# Altium schematic symbol library USB1075-30-P-B.SchLib: 1 symbol
Pins are listed as number, name and electrical type; pins without a type are passive.

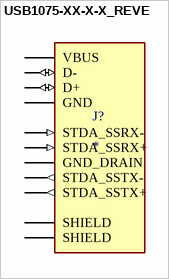
[diagram p0: symbol USB1075-XX-X-X_REVE]

## USB1075-XX-X-X_REVE
designator J?
USB 3.0 Receptacle. Type A, Through Hole, Horizontal, 9 Pin, Top Mount, with Kinked Shelll Stakes; MP: USB1075-XX-X-X_REVE; MF: {'manufacturer': u'Global Connector Technology'}; Availability: Unavailable; Value: *; Package: None; Price: None
footprint GCT_USB1075-XX-X-X_REVE
pins: 1 VBUS (power), 2 D- (io), 3 D+ (io), 4 GND, 5 STDA_SSRX- (in), 6 STDA_SSRX+ (in), 7 GND_DRAIN, 8 STDA_SSTX- (out), 9 STDA_SSTX+ (out), 10 SHIELD, 11 SHIELD